# EAGLE library part NPN_MBT3904DW1T1 (library Scott-Electrical)
MUN5214DW1 Digikey <https://www.digikey.com/product-detail/en/on-semiconductor/MUN5214DW1T1G/MUN5214DW1T1GOSCT-ND/1967212> MBT3904DW1 Dual NPN Transistors The MBT3904W1 puts two general purpose 3904 NPN transistors in a single package. Datasheet <http://www.onsemi.com/pub_link/Collateral/MBT3904DW1T1-D.PDF>
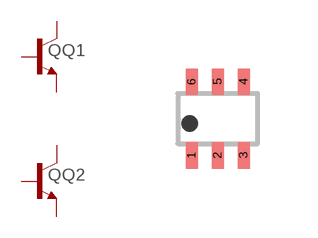
[diagram p2: symbol with the pads of SOT-363; footprint SOT-363]

Designator prefix Q; gates Q1=NPN Q2=NPN

## NPN_MBT3904DW1T1 (PROD_ID: TRANS-13337)  [SOT-363]
1  Q2:E  pas
2  Q2:B  pas
3  Q1:C  pas
4  Q1:E  pas
5  Q1:B  pas
6  Q2:C  pas

## Footprint SOT-363 (pad centres in mm)
SC-88/SC70-6/SOT-363 6-pin Package Example Datasheet <http://www.onsemi.com/pub_link/Collateral/MBT3904DW1T1-D.PDF>
smd 0.3 x 0.66: 1 -0.65,-0.92; 2 0,-0.92; 3 0.65,-0.92; 4 0.65,0.92; 5 0,0.92; 6 -0.65,0.92